# Altium schematic symbol library 辉光_SCHLib.SchLib: 48 symbols
Pins are listed as number, name and electrical type; pins without a type are passive.

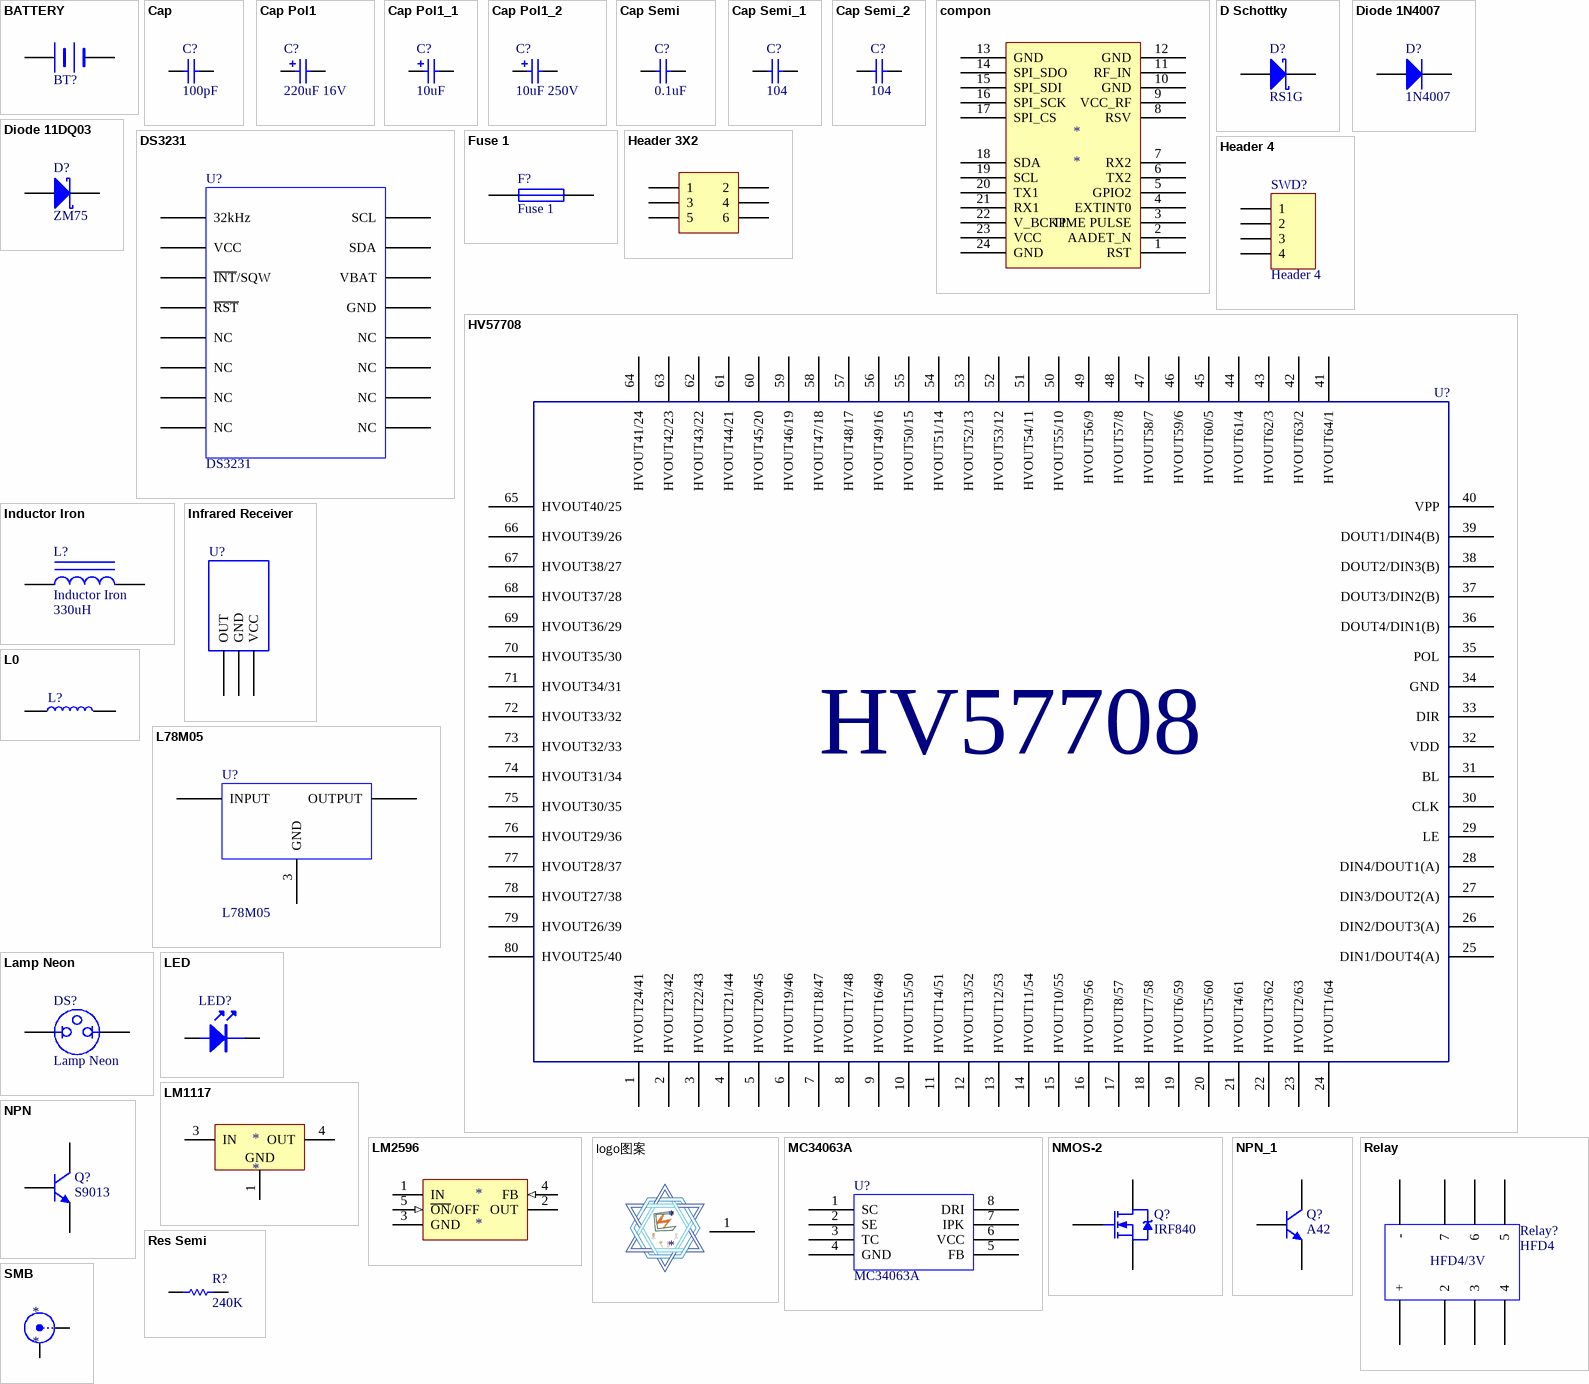
[diagram p0: symbols BATTERY to SMB]

## BATTERY
designator BT?, comment CR1220 holder  (value not drawn)
footprint BAT1220
pins: 1 +, 2 -
2 alternate drawings of the same symbol

## Cap
designator C?  value 100pF  (hidden comment: Cap)
Capacitor; Published: 8-Jun-2000; LatestRevisionDate: 17-Jul-2002; LatestRevisionNote: Re-released for DXP Platform.; PackageReference: RAD-0.3; Publisher: Altium Limited; PackageDescription: Radial Cap, Thru-Hole; 2 Leads; 0.3 in Pin Spacing
footprint C0805 (Chip Capacitor, Body 2.0x1.3mm, IPC High Density)
simulation model CAP (Capacitor)
signal-integrity model Cap
footprint 0805 (1/8W)
footprint C0603 (Chip Resistor; Body 1.6 x 0.8 mm (LxW typ))
pins: 1, 2

## Cap Pol1
designator C?  value 220uF 16V  (hidden comment: Cap Pol1)
Polarized Capacitor (Radial); Published: 8-Jun-2000; LatestRevisionDate: 17-Jul-2002; LatestRevisionNote: Re-released for DXP Platform.; PackageReference: RB7.6-15; Publisher: Altium Limited; PackageDescription: Polarized Capacitor (Radial); 2 Leads
footprint HONOR_63X77
simulation model CAP (Capacitor)
signal-integrity model Cap Pol
pins: 1, 2
1 alternate drawing of the same symbol

## Cap Pol1_1
designator C?, comment value 10uF  (hidden comment: Cap Pol1)
Polarized Capacitor (Radial); Published: 8-Jun-2000; LatestRevisionDate: 17-Jul-2002; LatestRevisionNote: Re-released for DXP Platform.; PackageReference: RB7.6-15; Publisher: Altium Limited
footprint C0603 (Chip Resistor; Body 1.6 x 0.8 mm (LxW typ))
footprint C1206 (Chip Capacitor; Body 3.2 x 1.6 mm (LxW typ))
footprint C1206 (Chip Capacitor, Body 3.2x1.6mm, IPC High Density)
footprint C0805 (Chip Resistor; Body 2.0 x 1.3 mm (LxW typ))
footprint C3216
footprint C
pins: 1, 2
1 alternate drawing of the same symbol

## Cap Pol1_2
designator C?, comment value 10uF 250V  (hidden comment: Cap Pol1)
Polarized Capacitor (Radial); Published: 8-Jun-2000; LatestRevisionDate: 17-Jul-2002; LatestRevisionNote: Re-released for DXP Platform.; PackageReference: RB7.6-15; Publisher: Altium Limited; PackageDescription: Polarized Capacitor (Radial); 2 Leads
footprint 电容卧放2.54mm-1 (11.6mmX5.3mm)
simulation model CAP (Capacitor)
signal-integrity model Cap Pol
pins: 1, 2
1 alternate drawing of the same symbol

## Cap Semi
designator C?  value 0.1uF  (hidden comment: Cap Semi)
Capacitor (Semiconductor SIM Model); Published: 8-Jun-2000; LatestRevisionDate: 17-Jul-2002; LatestRevisionNote: Re-released for DXP Platform.; PackageReference: C1206; Publisher: Altium Limited
footprint C1206 (Chip Capacitor; Body 3.2 x 1.6 mm (LxW typ))
footprint C0603 (Chip Resistor; Body 1.6 x 0.8 mm (LxW typ))
footprint C0805 (Chip Resistor; Body 2.0 x 1.3 mm (LxW typ))
footprint C1812 (Chip Capacitor; Body 4.5 x 3.2 mm (LxW typ))
footprint RAD-0.1 (Indicating Instrument; 2 Leads)
footprint 0805 (1/8W)
pins: 1, 2

## Cap Semi_1
designator C?, comment value 104  (hidden comment: Cap Semi)
Capacitor (Semiconductor SIM Model); Published: 8-Jun-2000; LatestRevisionDate: 17-Jul-2002; LatestRevisionNote: Re-released for DXP Platform.; PackageReference: C1206; Publisher: Altium Limited
footprint C0603 (Chip Resistor; Body 1.6 x 0.8 mm (LxW typ))
footprint C0603 (Chip Resistor; Body 1.6 x 0.8 mm (LxW typ))
footprint C0805 (Chip Resistor; Body 2.0 x 1.3 mm (LxW typ))
footprint C1812 (Chip Capacitor; Body 4.5 x 3.2 mm (LxW typ))
footprint RAD-0.1 (Indicating Instrument; 2 Leads)
pins: 1, 2

## Cap Semi_2
designator C?, comment value 104  (hidden comment: Cap Semi)
Capacitor (Semiconductor SIM Model); Published: 8-Jun-2000; LatestRevisionDate: 17-Jul-2002; LatestRevisionNote: Re-released for DXP Platform.; PackageReference: C1206; Publisher: Altium Limited
footprint C1206 (Chip Capacitor; Body 3.2 x 1.6 mm (LxW typ))
footprint C0603 (Chip Resistor; Body 1.6 x 0.8 mm (LxW typ))
footprint C0805 (Chip Resistor; Body 2.0 x 1.3 mm (LxW typ))
footprint C1812 (Chip Capacitor; Body 4.5 x 3.2 mm (LxW typ))
footprint RAD-0.1 (Indicating Instrument; 2 Leads)
pins: 1, 2

## compon
designator *
footprint UM220
pins: 1 RST, 2 AADET_N, 3 TIME PULSE, 4 EXTINT0, 5 GPIO2, 6 TX2, 7 RX2, 8 RSV, 9 VCC_RF, 10 GND, 11 RF_IN, 12 GND, 13 GND, 14 SPI_SDO, 15 SPI_SDI, 16 SPI_SCK, 17 SPI_CS, 18 SDA, 19 SCL, 20 TX1, 21 RX1, 22 V_BCKP, 23 VCC, 24 GND

## D Schottky
designator D?, comment RS1G
Schottky Diode; Published: 8-Jun-2000; LatestRevisionDate: 17-Jul-2002; LatestRevisionNote: Re-released for DXP Platform.; PackageReference: SMB; Publisher: Altium Limited; PackageDescription: DO-214-AA/SMB; 2 C-Bend Leads; Body 5.3 x 3.6 mm, inc. leads (LxW); Code_JEDEC: DO-214-AA
footprint SMB (DO-214-AA/SMB; 2 C-Bend Leads; Body 5.3 x 3.6 mm, inc. leads (LxW))
simulation model SKYDIODE (Diode)
signal-integrity model D Schottky
pins: 1 A, 2 K

## Diode 1N4007
designator D?, comment 1N4007
1 Amp General Purpose Rectifier; Published: 8-Jun-2000; LatestRevisionDate: 17-Jul-2002; LatestRevisionNote: Re-released for DXP Platform.; DatasheetVersion: 1998; PackageVersion: Aug-1999; PackageReference: DO-41; Publisher: Altium Limited; PackageDescription: Diode, Axial; Body 5.2 x 2.7 mm (LxDia. max), Lead Dia. 0.86 mm (max); Code_JEDEC: DO-204-AL; ComponentLink1Description: Manufacturer Link; ComponentLink1URL: http://www.fairchildsemi.com/; ComponentLink2Description: Datasheet; ComponentLink2URL: http://www.fairchildsemi.com/ds/1N%2F1N4001.pdf
footprint 1N4007W
simulation model 1N4007 (DIODE)
signal-integrity model 1N4007
pins: 1 A, 2 K

## Diode 11DQ03
designator D?, comment ZM75
Schottky Rectifier; Published: 8-Jun-2000; LatestRevisionDate: 17-Jul-2002; LatestRevisionNote: Re-released for DXP Platform.; DatasheetVersion: Dec-1997; PackageReference: DO-204AL; Publisher: Altium Limited; PackageDescription: Diode, Axial; Body 5.2 x 2.7 mm (LxDia. max), Lead Dia. 0.86 mm (max); Code_JEDEC: DO-204-AL; ComponentLink1Description: Manufacturer Link; ComponentLink1URL: http://www.irf.com/; ComponentLink2Description: Datasheet; ComponentLink2URL: http://www.irf.com/product-info/datasheets/data/11dq03.pdf
footprint LL-34
simulation model 11DQ03 (DIODE)
pins: 1 A, 2 K

## DS3231
designator U?
footprint SOP16_75MM
pins: 1 32kHz, 2 VCC, 3 ~{INT}/SQW, 4 ~{RST}, 5 NC, 6 NC, 7 NC, 8 NC, 9 NC, 10 NC, 11 NC, 12 NC, 13 GND, 14 VBAT, 15 SDA, 16 SCL

## Fuse 1
designator F?
Fuse; Published: 8-Jun-2000; LatestRevisionDate: 17-Jul-2002; LatestRevisionNote: Re-released for DXP Platform.; PackageReference: PIN-W2/E2.8; Publisher: Altium Limited; PackageDescription: Thru-Hole; 2 Leads
footprint SMD2018P100TF
simulation model FUSE (Spice Subcircuit)
pins: 1, 2

## Header 3X2
designator BOOT?  (value not drawn)
Header, 3-Pin, Dual row; LatestRevisionDate: 17-Jul-2002; LatestRevisionNote: Re-released for DXP Platform.; Publisher: Altium Limited
footprint HDR2X3 (Connector; Header; 3x2 Position)
signal-integrity model Connector
pins: 1, 2, 3, 4, 5, 6

## Header 4
designator SWD?
Header, 4-Pin; LatestRevisionDate: 17-Jul-2002; LatestRevisionNote: Re-released for DXP Platform.; Publisher: Altium Limited
footprint HDR1X4 (Connector; Header; 4 Position)
signal-integrity model Connector
pins: 1, 2, 3, 4

## HV57708
designator U?  (value not drawn)
footprint HV57708PG (QFP, 80-Leads, Body 17.40x23.40mm, Pitch 0.80mm, IPC Medium Density)
footprint HV57708PG (QFP, 80-Leads, Body 17.40x23.40mm, Pitch 0.80mm, IPC Medium Density)
pins: 1 HVOUT24/41, 2 HVOUT23/42, 3 HVOUT22/43, 4 HVOUT21/44, 5 HVOUT20/45, 6 HVOUT19/46, 7 HVOUT18/47, 8 HVOUT17/48, 9 HVOUT16/49, 10 HVOUT15/50, 11 HVOUT14/51, 12 HVOUT13/52, 13 HVOUT12/53, 14 HVOUT11/54, 15 HVOUT10/55, 16 HVOUT9/56, 17 HVOUT8/57, 18 HVOUT7/58, 19 HVOUT6/59, 20 HVOUT5/60, 21 HVOUT4/61, 22 HVOUT3/62, 23 HVOUT2/63, 24 HVOUT1/64, 25 DIN1/DOUT4(A), 26 DIN2/DOUT3(A), 27 DIN3/DOUT2(A), 28 DIN4/DOUT1(A), 29 LE, 30 CLK, 31 BL, 32 VDD, 33 DIR, 34 GND, 35 POL, 36 DOUT4/DIN1(B), 37 DOUT3/DIN2(B), 38 DOUT2/DIN3(B), 39 DOUT1/DIN4(B), 40 VPP, 41 HVOUT64/1, 42 HVOUT63/2, 43 HVOUT62/3, 44 HVOUT61/4, 45 HVOUT60/5, 46 HVOUT59/6, 47 HVOUT58/7, 48 HVOUT57/8, 49 HVOUT56/9, 50 HVOUT55/10, 51 HVOUT54/11, 52 HVOUT53/12, 53 HVOUT52/13, 54 HVOUT51/14, 55 HVOUT50/15, 56 HVOUT49/16, 57 HVOUT48/17, 58 HVOUT47/18, 59 HVOUT46/19, 60 HVOUT45/20, 61 HVOUT44/21, 62 HVOUT43/22, 63 HVOUT42/23, 64 HVOUT41/24, 65 HVOUT40/25, 66 HVOUT39/26, 67 HVOUT38/27, 68 HVOUT37/28, 69 HVOUT36/29, 70 HVOUT35/30, 71 HVOUT34/31, 72 HVOUT33/32, 73 HVOUT32/33, 74 HVOUT31/34, 75 HVOUT30/35, 76 HVOUT29/36, 77 HVOUT28/37, 78 HVOUT27/38, 79 HVOUT26/39, 80 HVOUT25/40

## Inductor Iron
designator L?  value 330uH
Magnetic-Core Inductor; Published: 24-Mar-1999; LatestRevisionDate: 17-Jul-2002; LatestRevisionNote: Re-released for DXP Platform.; PackageReference: AXIAL-0.9; Publisher: Altium Limited; PackageDescription: Axial Device, Thru-Hole; 2 Leads; 0.9 in Pin Spacing
footprint GDRH127
simulation model INDUCTOR (Inductor)
signal-integrity model Inductor Iron
pins: 1, 2

## Infrared Receiver
designator U?, comment Infrared receiver  (value not drawn)
footprint SIP3
pins: 1 OUT, 2 GND, 3 VCC

## L0
designator L?  (value not drawn)
footprint 0805 (1/8W)
pins: 1, 2

## L78M05
designator U?
footprint TO-252-2L
pins: 1 INPUT, 2 OUTPUT, 3 GND

## Lamp Neon
designator DS?
Neon Lamp; Published: 24-Mar-1999; LatestRevisionDate: 17-Jul-2002; LatestRevisionNote: Re-released for DXP Platform.; PackageReference: PIN2; Publisher: Altium Limited
footprint PIN2 (Photosensitive Diode; 2 Leads)
pins: 1, 2

## LED
designator LED?  (value not drawn)
LED发光管
footprint LED3mm
footprint AVX_B_3528-21
footprint LED0805
footprint LED1206
pins: 1, 2

## LM1117
designator *
footprint SOT-223
pins: 1 GND (power), 3 IN (power), 4 OUT (power)

## LM2596
designator *
footprint TO-263-5
pins: 1 IN (power), 2 OUT (power), 3 GND (power), 4 FB (in), 5 ~{ON}/OFF (in)

## logo图案
designator *
footprint logo
pins: 1

## MC34063A
designator U?
footprint SOIC8
pins: 1 SC, 2 SE, 3 TC, 4 GND, 5 FB, 6 VCC, 7 IPK, 8 DRI

## NMOS-2
designator Q?, comment IRF840
N-Channel Power MOSFET; Note: Pin 2 is electrically connected to pin 4.; Published: 8-Jun-2000; LatestRevisionDate: 17-Jul-2002; LatestRevisionNote: Re-released for DXP Platform.; DatasheetVersion: PD-9.814; PackageVersion: Feb-1997; PackageReference: TO-220AB; Publisher: Altium Limited; PackageDescription: TO, Thru-Hole, Vertical, Heatsink Mounted; 3 In-Line Leads; Pitch 2.54 mm; ComponentLink1Description: Manufacturer Link; ComponentLink1URL: http://www.irf.com/
footprint TO-263-2L
simulation model IRF1010 (Spice Subcircuit)
pins: 1 G, 2 D, 3 S

## NPN
designator Q?, comment S9013
NPN Bipolar Transistor; Published: 8-Jun-2000; LatestRevisionDate: 17-Jul-2002; LatestRevisionNote: Re-released for DXP Platform.; PackageReference: TO-226; Publisher: Altium Limited; Code_JEDEC: TO-226-AA
footprint SOT-323
footprint TO-92 (TO, Flat Index; 3 In-Line, Axial Leads; Body Dia. 4.5mm; Leads 0.51 x 0.48 mm (max))
pins: 1 B, 2 E, 3 C

## NPN_1
designator Q?, comment A42
NPN Bipolar Transistor; Published: 8-Jun-2000; LatestRevisionDate: 17-Jul-2002; LatestRevisionNote: Re-released for DXP Platform.; PackageReference: TO-226; Publisher: Altium Limited; Code_JEDEC: TO-226-AA
footprint SOT-23-3L
footprint TO-92 (TO, Flat Index; 3 In-Line, Axial Leads; Body Dia. 4.5mm; Leads 0.51 x 0.48 mm (max))
pins: 1 B, 2 E, 3 C

## Relay
designator Relay?, comment HFD4
footprint HFD4
pins: 1 +, 2, 3, 4, 5, 6, 7, 8 -
text: HFD4/3V

## Res Semi
designator R?  value 240K  (hidden comment: Res Semi)
Semiconductor Resistor; Published: 8-Jun-2000; LatestRevisionDate: 17-Jul-2002; LatestRevisionNote: Re-released for DXP Platform.; PackageReference: AXIAL-0.5; Publisher: Altium Limited
footprint R0805 (Chip Resistor; Body 2.0 x 1.3 mm (LxW typ))
footprint R0603 (Chip Resistor; Body 1.6 x 0.8 mm (LxW typ))
footprint 0805 (1/8W)
pins: 1, 2

## SMB
designator *
footprint SMB-V
pins: 1 X, 2 Y

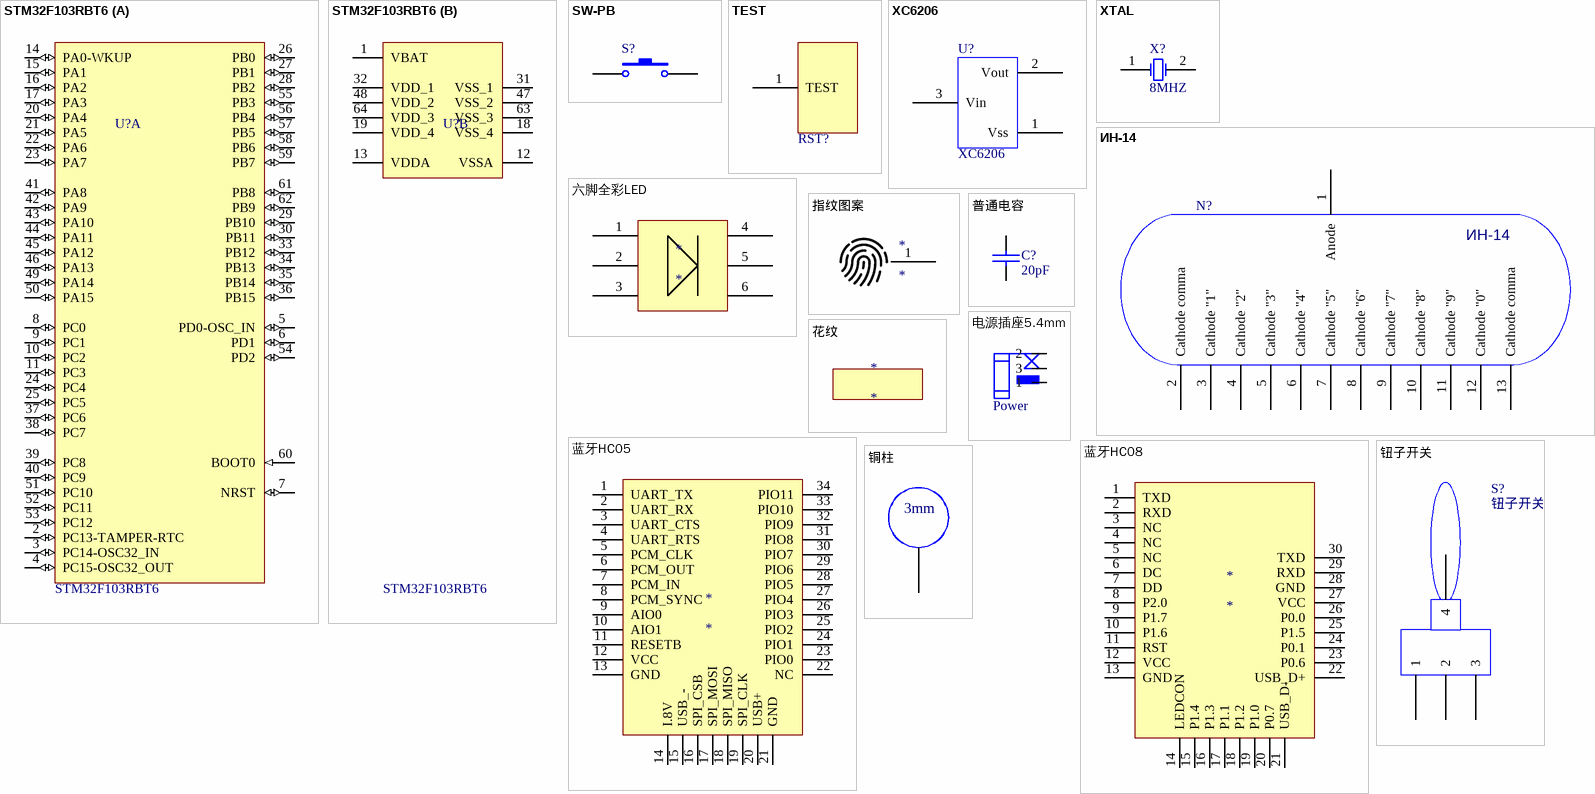
[diagram p1: symbols STM32F103RBT6 to 铜柱]

## STM32F103RBT6
designator U?
STM32 ARM-based 32-bit MCU Performance Line with 128 kB Flash, 20 kB Internal RAM, -40 to +85癈 Temperature, 64-Pin LQFP, Tray; DatasheetVersion: rev13.0, Apr-2011; PackageVersion: rev13, Apr-2011; PackageReference: LQFP64; PackageDescription: 64-Pin Low-Profile Quad Flat Pack, 10 x 10 mm Body, 0.5 mm Pitch (LQFP64); ComponentLink1Description: Manufacturer URL; ComponentLink1URL: http://www.st.com/; ComponentLink2Description: STM32F103 Datasheet; ComponentLink2URL: http://www.st.com/internet/com/TECHNICAL_RESOURCES/TECHNICAL_LITERATURE/DATASHEET/CD00161566.pdf; ComponentLink3Description: STM32 Family Web Page; ComponentLink3URL: www.st.com/stm32
footprint LQFP64_N (Thin QFP, 64-Leads, Body 10x10mm, Pitch 0.5mm, IPC Medium Density)
footprint LQFP64_L (Thin QFP, 64-Leads, Body 10x10mm, Pitch 0.5mm, IPC High Density)
footprint LQFP64_M (Thin QFP, 64-Leads, Body 10x10mm, Pitch 0.5mm, IPC Low Density)
part A pins: 2 PC13-TAMPER-RTC (io), 3 PC14-OSC32_IN (io), 4 PC15-OSC32_OUT (io), 5 PD0-OSC_IN (io), 6 PD1 (io), 7 NRST (io), 8 PC0 (io), 9 PC1 (io), 10 PC2 (io), 11 PC3 (io), 14 PA0-WKUP (io), 15 PA1 (io), 16 PA2 (io), 17 PA3 (io), 20 PA4 (io), 21 PA5 (io), 22 PA6 (io), 23 PA7 (io), 24 PC4 (io), 25 PC5 (io), 26 PB0 (io), 27 PB1 (io), 28 PB2 (io), 29 PB10 (io), 30 PB11 (io), 33 PB12 (io), 34 PB13 (io), 35 PB14 (io), 36 PB15 (io), 37 PC6 (io), 38 PC7 (io), 39 PC8 (io), 40 PC9 (io), 41 PA8 (io), 42 PA9 (io), 43 PA10 (io), 44 PA11 (io), 45 PA12 (io), 46 PA13 (io), 49 PA14 (io), 50 PA15 (io), 51 PC10 (io), 52 PC11 (io), 53 PC12 (io), 54 PD2 (io), 55 PB3 (io), 56 PB4 (io), 57 PB5 (io), 58 PB6 (io), 59 PB7 (io), 60 BOOT0 (in), 61 PB8 (io), 62 PB9 (io)
part B pins: 1 VBAT (power), 12 VSSA (power), 13 VDDA (power), 18 VSS_4 (power), 19 VDD_4 (power), 31 VSS_1 (power), 32 VDD_1 (power), 47 VSS_2 (power), 48 VDD_2 (power), 63 VSS_3 (power), 64 VDD_3 (power)

## SW-PB
designator S?  (value not drawn)
Switch; Published: 24-Mar-1999; LatestRevisionDate: 17-Jul-2002; LatestRevisionNote: Re-released for DXP Platform.; PackageReference: SPST-2; Publisher: Altium Limited
footprint 贴片按键（红头）
pins: 1, 2

## TEST
designator RST?  (value not drawn)
footprint TEST
pins: 1 TEST

## XC6206
designator U?
footprint SOT-23-3L
pins: 1 Vss, 2 Vout, 3 Vin

## XTAL
designator X?, comment 8MHZ
Crystal Oscillator; Published: 8-Jun-2000; LatestRevisionDate: 17-Jul-2002; LatestRevisionNote: Re-released for DXP Platform.; PackageReference: R38; Publisher: Altium Limited
footprint R38 (Crystal, Thru-Hole; 2 Leads; Body 3.1 x 8.2 mm (Dia.xH))
simulation model XTAL (Spice Subcircuit)
footprint XTAL
footprint CRYS
footprint SMD2_50X32
pins: 1 OSC1, 2 OSC2

## ИН-14
designator N?  (value not drawn)
footprint IN14
pins: 1 Anode, 2 Cathode comma, 3 Cathode "1", 4 Cathode "2", 5 Cathode "3", 6 Cathode "4", 7 Cathode "5", 8 Cathode "6", 9 Cathode "7", 10 Cathode "8", 11 Cathode "9", 12 Cathode "0", 13 Cathode comma

## 六脚全彩LED
designator *
footprint 全彩LED
pins: 1, 2, 3, 4, 5, 6

## 指纹图案
designator *
footprint 指纹图案
pins: 1

## 普通电容
designator C?, comment 20pF
Capacitor
footprint 0805
footprint RAD0.2
footprint RAD0.3
footprint C0603 (Chip Resistor; Body 1.6 x 0.8 mm (LxW typ))
pins: 1, 2

## 电源插座5.4mm
designator DC?, comment Power
footprint DC-5mm贴片
pins: 1, 2, 3

## 花纹
designator *
footprint 花纹

## 蓝牙HC05
designator *
footprint 蓝牙HC05
pins: 1 UART_TX, 2 UART_RX, 3 UART_CTS, 4 UART_RTS, 5 PCM_CLK, 6 PCM_OUT, 7 PCM_IN, 8 PCM_SYNC, 9 AIO0, 10 AIO1, 11 RESETB, 12 VCC, 13 GND, 14 I.8V, 15 USB_-, 16 SPI_CSB, 17 SPI_MOSI, 18 SPI_MISO, 19 SPI_CLK, 20 USB+, 21 GND, 22 NC, 23 PIO0, 24 PIO1, 25 PIO2, 26 PIO3, 27 PIO4, 28 PIO5, 29 PIO6, 30 PIO7, 31 PIO8, 32 PIO9, 33 PIO10, 34 PIO11

## 蓝牙HC08
designator *
pins: 1 TXD, 2 RXD, 3 NC, 4 NC, 5 NC, 6 DC, 7 DD, 8 P2.0, 9 P1.7, 10 P1.6, 11 RST, 12 VCC, 13 GND, 14 LEDCON, 15 P1.4, 16 P1.3, 17 P1.1, 18 P1.2, 19 P1.0, 20 P0.7, 21 USB_D-, 22 USB_D+, 23 P0.6, 24 P0.1, 25 P1.5, 26 P0.0, 27 VCC, 28 GND, 29 RXD, 30 TXD

## 钮子开关
designator S?
footprint 钮子开关6mm
pins: 1, 2, 3, 4

## 铜柱
designator T?  (value not drawn)
footprint 螺丝孔-3mm
pins: 1
text: 3mm